# EAGLE library part NHD-2.23-12832UCW3 (library pepin)
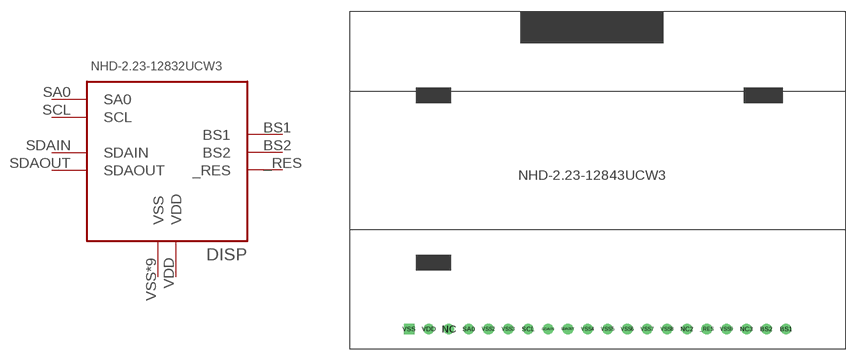
[diagram p0: symbol with the pads of NHD-2.23-12832UCW3; footprint NHD-2.23-12832UCW3]

Designator prefix DISP

## NHD-2.23-12832UCW3  [NHD-2.23-12832UCW3]
_RES  _RES
BS1  BS1
BS2  BS2
SA0  SA0
SCL  SCL
SDAIN  SDAIN
SDAOUT  SDAOUT
VDD  VDD  pwr
VSS  VSS  pwr
VSS2  VSS  pwr
VSS3  VSS  pwr
VSS4  VSS  pwr
VSS5  VSS  pwr
VSS6  VSS  pwr
VSS7  VSS  pwr
VSS8  VSS  pwr
VSS9  VSS  pwr

## Footprint NHD-2.23-12832UCW3 (pad centres in mm)
drill 0.85: _RES 45.74,2.41; BS1 55.9,2.41; BS2 53.36,2.41; NC 12.72,2.41; NC2 43.2,2.41; NC3 50.82,2.41; SA0 15.26,2.41; SCL 22.88,2.41; SDAIN 25.42,2.41; SDAOUT 27.96,2.41; VDD 10.18,2.41; VSS2 17.8,2.41; VSS3 20.34,2.41; VSS4 30.5,2.41; VSS5 33.04,2.41; VSS6 35.58,2.41; VSS7 38.12,2.41; VSS8 40.66,2.41; VSS9 48.28,2.41
drill 0.85 square: VSS 7.64,2.41